# Altium schematic symbol library Header_Wurth_61300711121_7POS.SchLib: 1 symbol
Pins are listed as number, name and electrical type; pins without a type are passive.

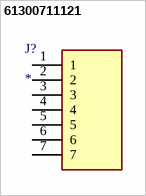
[diagram p0: symbol 61300711121]

## 61300711121
designator J?
Connector; Manufacturer_Name: Wurth Elektronik; Manufacturer_Part_Number: 61300711121; Datasheet Link: https://componentsearchengine.com//61300711121.pdf; Height: 8.69mm; Mouser2 Part Number: 710-61300711121; Mouser2 Price/Stock: https://www.mouser.com/Search/Refine.aspx?Keyword=710-61300711121
footprint HDRV7W64P0X254_1X7_1778X254X869P
pins: 1, 2, 3, 4, 5, 6, 7